# EAGLE library part AMPHENOL_PCIE_X8_SOCKET (library m_connector)
Amphenol PCIe Gen3 x8 Card Edge Socket Octopart Search <https://octopart.com/search?q=10061913-%3F%3F2%3FLF> Drawing <https://www.amphenol-icc.com/media/wysiwyg/files/drawing/10061913.pdf> Specification <https://www2.mouser.com/pdfdocs/bwb_pcie_cardedge.pdf> PCI Express Wikipedia <https://en.wikipedia.org/wiki/PCI_Express> Added 2018-05-19 by MC
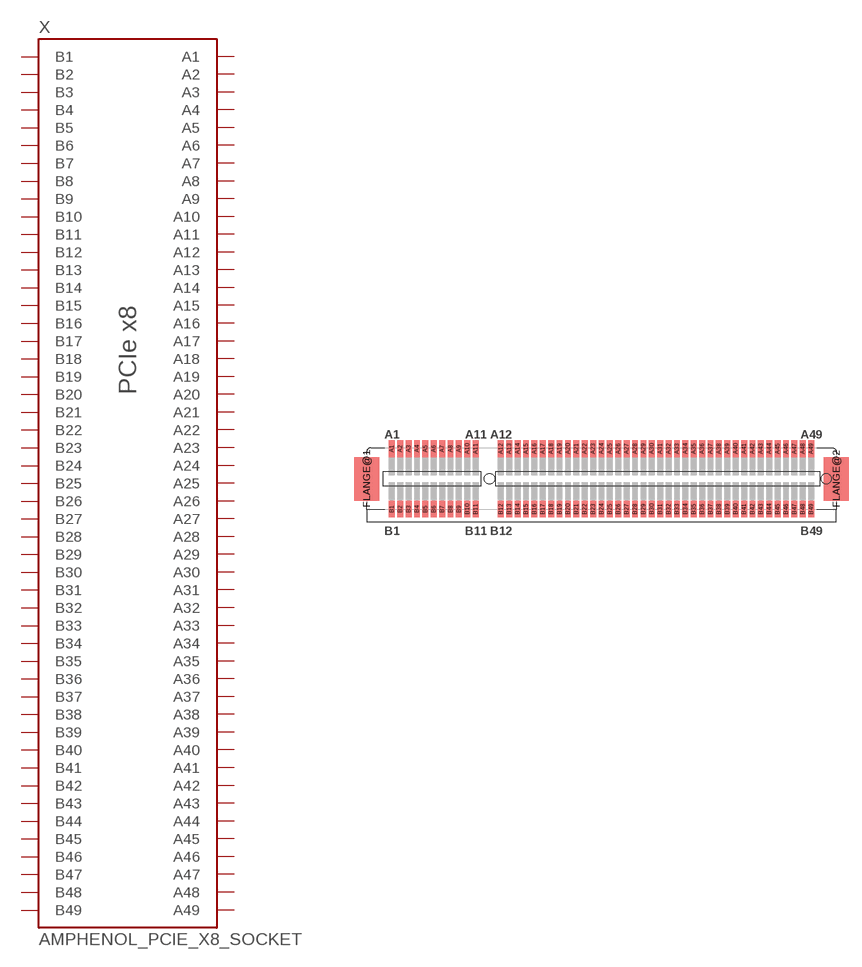
[diagram p17: symbol with the pads of AMP_10061913-XX2XLF; footprint AMP_10061913-XX2XLF]

Designator prefix X

## AMPHENOL_PCIE_X8_SOCKET (MANUF: Amphenol; PARTNUM: 10061913-??2?LF; VALUE: 10061913-XX2XLF)  [AMP_10061913-XX2XLF]
A1  A1  pas
A2  A2  pas
A3  A3  pas
A4  A4  pas
A5  A5  pas
A6  A6  pas
A7  A7  pas
A8  A8  pas
A9  A9  pas
A10  A10  pas
A11  A11  pas
A12  A12  pas
A13  A13  pas
A14  A14  pas
A15  A15  pas
A16  A16  pas
A17  A17  pas
A18  A18  pas
A19  A19  pas
A20  A20  pas
A21  A21  pas
A22  A22  pas
A23  A23  pas
A24  A24  pas
A25  A25  pas
A26  A26  pas
A27  A27  pas
A28  A28  pas
A29  A29  pas
A30  A30  pas
A31  A31  pas
A32  A32  pas
A33  A33  pas
A34  A34  pas
A35  A35  pas
A36  A36  pas
A37  A37  pas
A38  A38  pas
A39  A39  pas
A40  A40  pas
A41  A41  pas
A42  A42  pas
A43  A43  pas
A44  A44  pas
A45  A45  pas
A46  A46  pas
A47  A47  pas
A48  A48  pas
A49  A49  pas
B1  B1  pas
B2  B2  pas
B3  B3  pas
B4  B4  pas
B5  B5  pas
B6  B6  pas
B7  B7  pas
B8  B8  pas
B9  B9  pas
B10  B10  pas
B11  B11  pas
B12  B12  pas
B13  B13  pas
B14  B14  pas
B15  B15  pas
B16  B16  pas
B17  B17  pas
B18  B18  pas
B19  B19  pas
B20  B20  pas
B21  B21  pas
B22  B22  pas
B23  B23  pas
B24  B24  pas
B25  B25  pas
B26  B26  pas
B27  B27  pas
B28  B28  pas
B29  B29  pas
B30  B30  pas
B31  B31  pas
B32  B32  pas
B33  B33  pas
B34  B34  pas
B35  B35  pas
B36  B36  pas
B37  B37  pas
B38  B38  pas
B39  B39  pas
B40  B40  pas
B41  B41  pas
B42  B42  pas
B43  B43  pas
B44  B44  pas
B45  B45  pas
B46  B46  pas
B47  B47  pas
B48  B48  pas
B49  B49  pas

## Footprint AMP_10061913-XX2XLF (pad centres in mm)
Amphenol PCIe Gen3 x8 Card Edge Connector SMT Created 2018-05-19 from Amphenol drawing 1006193 revision P, 2017-09-12
smd 0.7 x 2: A1 -11.65,3.6; A2 -10.65,3.6; A3 -9.65,3.6; A4 -8.65,3.6; A5 -7.65,3.6; A6 -6.65,3.6; A7 -5.65,3.6; A8 -4.65,3.6; A9 -3.65,3.6; A10 -2.65,3.6; A11 -1.65,3.6; A12 1.35,3.6; A13 2.35,3.6; A14 3.35,3.6; A15 4.35,3.6; A16 5.35,3.6; A17 6.35,3.6; A18 7.35,3.6; A19 8.35,3.6; A20 9.35,3.6; A21 10.35,3.6; A22 11.35,3.6; A23 12.35,3.6; A24 13.35,3.6; A25 14.35,3.6; A26 15.35,3.6; A27 16.35,3.6; A28 17.35,3.6; A29 18.35,3.6; A30 19.35,3.6; A31 20.35,3.6; A32 21.35,3.6; A33 22.35,3.6; A34 23.35,3.6; A35 24.35,3.6; A36 25.35,3.6; A37 26.35,3.6; A38 27.35,3.6; A39 28.35,3.6; A40 29.35,3.6; A41 30.35,3.6; A42 31.35,3.6; A43 32.35,3.6; A44 33.35,3.6; A45 34.35,3.6; A46 35.35,3.6; A47 36.35,3.6; A48 37.35,3.6; A49 38.35,3.6; B1 -11.65,-3.6; B2 -10.65,-3.6; B3 -9.65,-3.6; B4 -8.65,-3.6; B5 -7.65,-3.6; B6 -6.65,-3.6; B7 -5.65,-3.6; B8 -4.65,-3.6; B9 -3.65,-3.6; B10 -2.65,-3.6; B11 -1.65,-3.6; B12 1.35,-3.6; B13 2.35,-3.6; B14 3.35,-3.6; B15 4.35,-3.6; B16 5.35,-3.6; B17 6.35,-3.6; B18 7.35,-3.6; B19 8.35,-3.6; B20 9.35,-3.6; B21 10.35,-3.6; B22 11.35,-3.6; B23 12.35,-3.6; B24 13.35,-3.6; B25 14.35,-3.6; B26 15.35,-3.6; B27 16.35,-3.6; B28 17.35,-3.6; B29 18.35,-3.6; B30 19.35,-3.6; B31 20.35,-3.6; B32 21.35,-3.6; B33 22.35,-3.6; B34 23.35,-3.6; B35 24.35,-3.6; B36 25.35,-3.6; B37 26.35,-3.6; B38 27.35,-3.6; B39 28.35,-3.6; B40 29.35,-3.6; B41 30.35,-3.6; B42 31.35,-3.6; B43 32.35,-3.6; B44 33.35,-3.6; B45 34.35,-3.6; B46 35.35,-3.6; B47 36.35,-3.6; B48 37.35,-3.6; B49 38.35,-3.6
smd 3 x 5.2: FLANGE@1 -14.65,0; FLANGE@2 41.35,0
hole 1.2 at 0,0
hole 1.2 at 40.15,0